# EAGLE library part MB91F668PMC-G-JNE1 (library Fujitsu_By_element14_Batch_1)
32-bit Microcontrollers
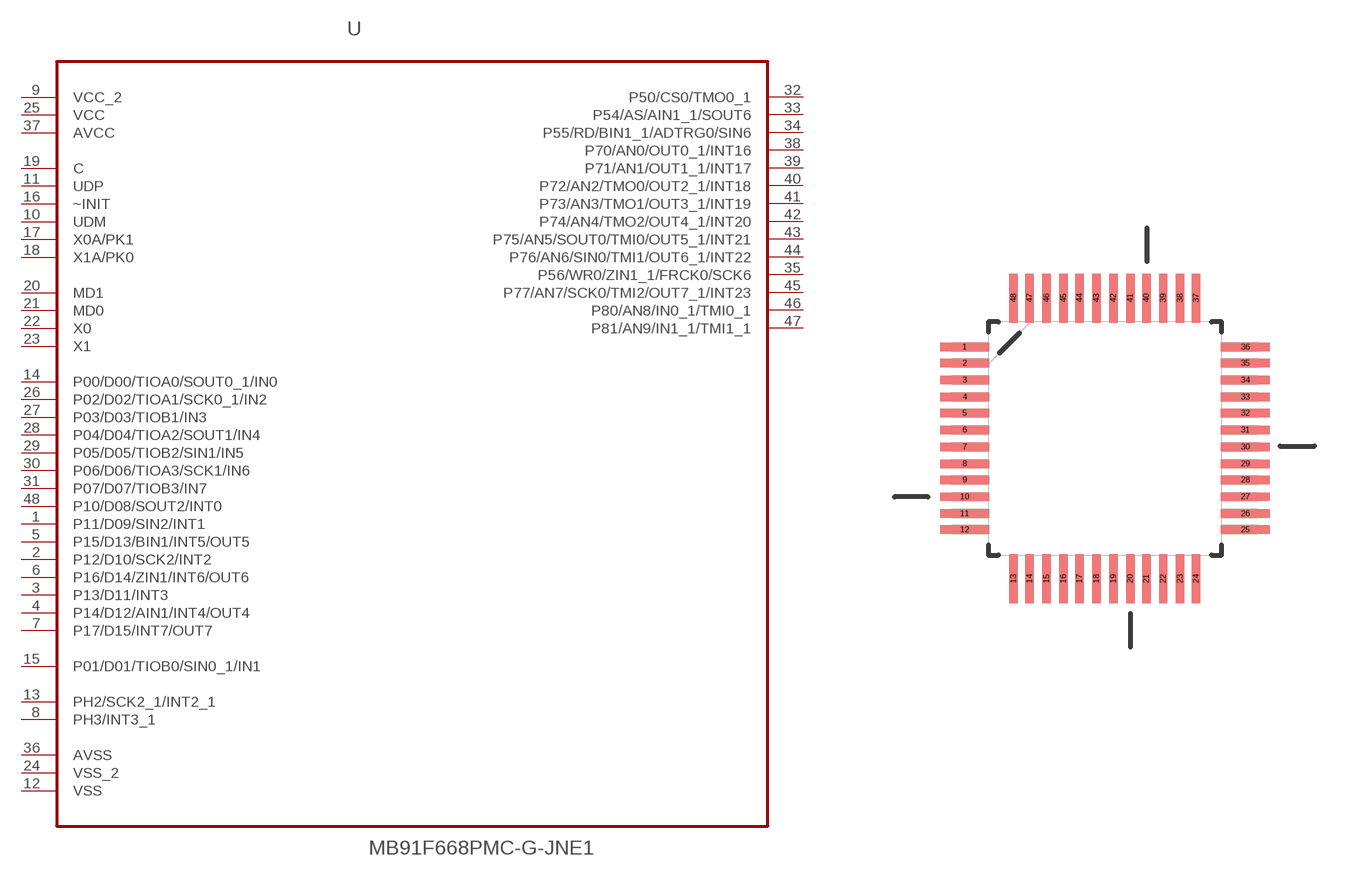
[diagram p3: symbol with the pads of QFP50P900X900X170-48N; footprint QFP50P900X900X170-48N]

Designator prefix U

## MB91F668PMC-G-JNE1 (MPN: MB91F668PMC-G-JNE1; OC_FARNELL: 1831974; OC_NEWARK: 93R5175; PACKAGE: LQFP-48; SUPPLIER: FUJITSU)  [QFP50P900X900X170-48N]
1  P11/D09/SIN2/INT1
2  P12/D10/SCK2/INT2
3  P13/D11/INT3
4  P14/D12/AIN1/INT4/OUT4
5  P15/D13/BIN1/INT5/OUT5
6  P16/D14/ZIN1/INT6/OUT6
7  P17/D15/INT7/OUT7
8  PH3/INT3_1
9  VCC_2  in
10  UDM  in
11  UDP  in
12  VSS  in
13  PH2/SCK2_1/INT2_1
14  P00/D00/TIOA0/SOUT0_1/IN0
15  P01/D01/TIOB0/SIN0_1/IN1
16  ~INIT  in
17  X0A/PK1  in
18  X1A/PK0  in
19  C  in
20  MD1  in
21  MD0  in
22  X0  in
23  X1  in
24  VSS_2  in
25  VCC  in
26  P02/D02/TIOA1/SCK0_1/IN2
27  P03/D03/TIOB1/IN3
28  P04/D04/TIOA2/SOUT1/IN4
29  P05/D05/TIOB2/SIN1/IN5
30  P06/D06/TIOA3/SCK1/IN6
31  P07/D07/TIOB3/IN7
32  P50/CS0/TMO0_1
33  P54/AS/AIN1_1/SOUT6
34  P55/RD/BIN1_1/ADTRG0/SIN6
35  P56/WR0/ZIN1_1/FRCK0/SCK6  in
36  AVSS  in
37  AVCC  in
38  P70/AN0/OUT0_1/INT16
39  P71/AN1/OUT1_1/INT17
40  P72/AN2/TMO0/OUT2_1/INT18
41  P73/AN3/TMO1/OUT3_1/INT19
42  P74/AN4/TMO2/OUT4_1/INT20
43  P75/AN5/SOUT0/TMI0/OUT5_1/INT21
44  P76/AN6/SIN0/TMI1/OUT6_1/INT22
45  P77/AN7/SCK0/TMI2/OUT7_1/INT23
46  P80/AN8/IN0_1/TMI0_1
47  P81/AN9/IN1_1/TMI1_1
48  P10/D08/SOUT2/INT0

## Footprint QFP50P900X900X170-48N (pad centres in mm)
smd 1.473 x 0.254: 1 -4.216,2.743; 2 -4.216,2.261; 3 -4.216,1.753; 4 -4.216,1.245; 5 -4.216,0.762; 6 -4.216,0.254; 7 -4.216,-0.254; 8 -4.216,-0.762; 9 -4.216,-1.245; 10 -4.216,-1.753; 11 -4.216,-2.261; 12 -4.216,-2.743; 25 4.216,-2.743; 26 4.216,-2.261; 27 4.216,-1.753; 28 4.216,-1.245; 29 4.216,-0.762; 30 4.216,-0.254; 31 4.216,0.254; 32 4.216,0.762; 33 4.216,1.245; 34 4.216,1.753; 35 4.216,2.261; 36 4.216,2.743
smd 0.254 x 1.473: 13 -2.743,-4.216; 14 -2.261,-4.216; 15 -1.753,-4.216; 16 -1.245,-4.216; 17 -0.762,-4.216; 18 -0.254,-4.216; 19 0.254,-4.216; 20 0.762,-4.216; 21 1.245,-4.216; 22 1.753,-4.216; 23 2.261,-4.216; 24 2.743,-4.216; 37 2.743,4.216; 38 2.261,4.216; 39 1.753,4.216; 40 1.245,4.216; 41 0.762,4.216; 42 0.254,4.216; 43 -0.254,4.216; 44 -0.762,4.216; 45 -1.245,4.216; 46 -1.753,4.216; 47 -2.261,4.216; 48 -2.743,4.216